# Altium footprint library zytek_ctl.PcbLib: 24 footprints (part 1 of 2)
Each footprint in its own frame and in the unit in brackets; x right, y up, seen from the top. Pads: shape width x height; smd on the part's side, far side on the other; paste and mask are expansions set on the pad; w line width, h text height; cw(c..) or ccw(c..) is an arc to the next point about the centre after c.
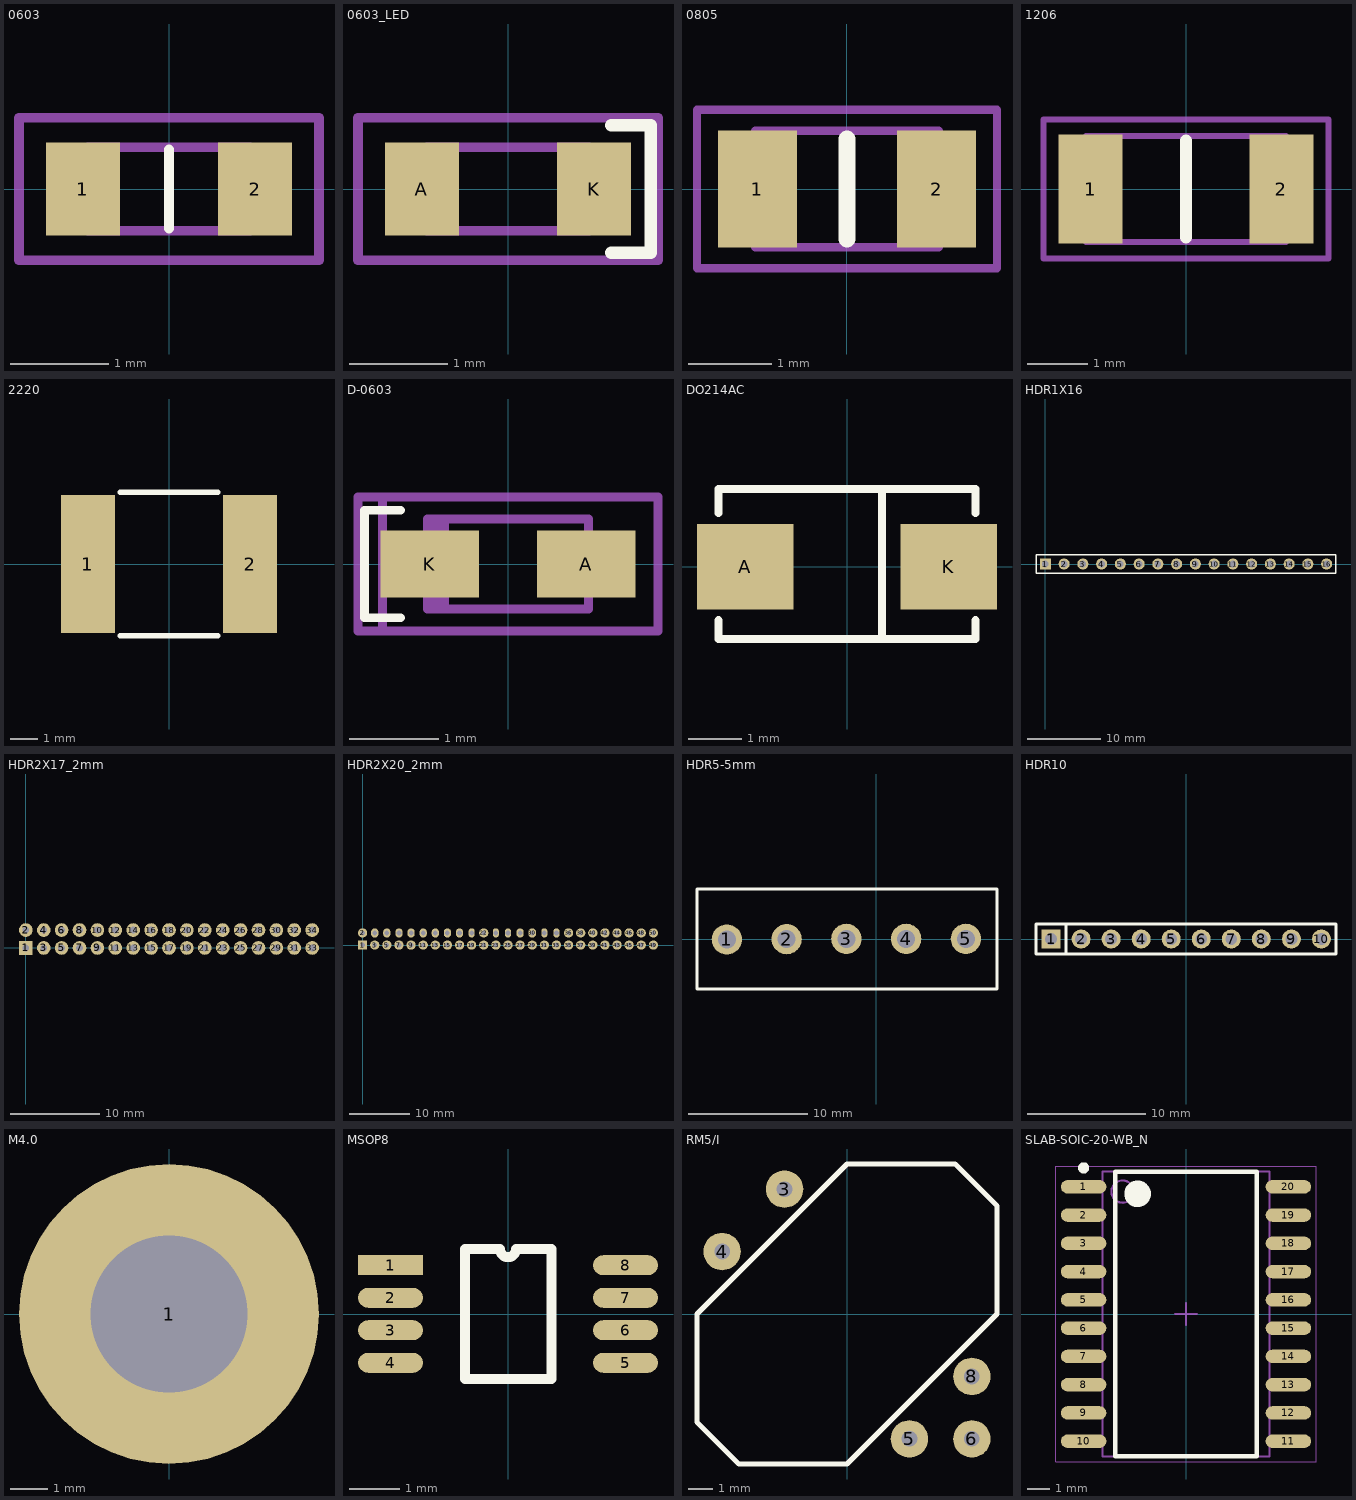
[diagram p0: the footprints below, top view; thin cyan lines are the x and y axes]

## 0603 [mm]
pads (2):
  rect 0.75x0.95 smd: 1(-0.875,0) 2(0.875,0)
Top Overlay:
  lines w0.1: 0,-0.4 0,0.4
Mechanical 2:
  text ".designator" at 0,0 h1
Mechanical 13:
  lines w0.1: -0.825,-0.425 -0.825,0.425 0.825,0.425 0.825,-0.425 -0.825,-0.425
Mechanical 15:
  lines w0.1: -1.525,-0.725 -1.525,0.725 1.525,0.725 1.525,-0.725 -1.525,-0.725
3D body: height 0.5, standoff 0, extent -0.825,-0.425 0.825,0.425

## 0603_LED [mm]
pads (2):
  rect 0.75x0.95 smd: A(-0.875,0) K(0.875,0)
Top Overlay:
  lines w0.127: 1.05,-0.65 1.45,-0.65 1.45,0.65 1.05,0.65
Mechanical 2:
  text ".designator" at 0,0 h1
Mechanical 13:
  lines w0.1: -0.825,-0.425 -0.825,0.425 0.825,0.425 0.825,-0.425 -0.825,-0.425
Mechanical 15:
  lines w0.1: -1.525,-0.725 -1.525,0.725 1.525,0.725 1.525,-0.725 -1.525,-0.725
3D body: height 0.5, standoff 0, extent -0.825,-0.425 0.825,0.425

## 0805 [mm]
pads (2):
  rect 0.95x1.4 smd: 1(-1.075,0) 2(1.075,0)
Top Overlay:
  lines w0.2: 0,-0.6 0,0.6
Mechanical 2:
  text ".designator" at 0,0 h1
Mechanical 13:
  lines w0.1: -1.1,-0.7 1.1,-0.7 1.1,0.7 -1.1,0.7 -1.1,-0.7
Mechanical 15:
  lines w0.1: -1.8,-0.95 1.8,-0.95 1.8,0.95 -1.8,0.95 -1.8,-0.95
3D body: height 0.5, standoff 0, extent -1.1,-0.7 1.1,0.7

## 1206 [mm]
pads (2):
  rect 1.05x1.8 smd: 1(-1.575,0) 2(1.575,0)
Top Overlay:
  lines w0.2: 0,-0.8 0,0.8
Mechanical 2:
  text ".designator" at 0,0 h1
Mechanical 13:
  lines w0.1: -1.65,-0.875 -1.65,0.875 1.65,0.875 1.65,-0.875 -1.65,-0.875
Mechanical 15:
  lines w0.1: -2.35,-1.15 -2.35,1.15 2.35,1.15 2.35,-1.15 -2.35,-1.15
3D body: height 0.6, standoff 0, extent -1.65,-0.875 1.65,0.875

## 2220 [mm]
pads (2):
  rect 2x5.1 smd: 1(-3,0) 2(3,0)
Top Overlay:
  lines w0.2: -1.8,-2.65 1.8,-2.65 ; -1.8,2.65 1.8,2.65
Mechanical 2:
  text ".designator" at 0,0 h1
3D body: height 5.3, standoff 0, extent -2.997,-2.667 3.124,2.642

## D-0603 [mm] "0603 Diode, 2-Leads, Body 1.7x0.9mm, IPC Medium Density"
height 0.85
pads (2):
  rect 1.1x0.75 smd: A(0.875,0) K(-0.875,0)
Top Overlay:
  lines w0.1: -1.2,-0.6 -1.6,-0.6 -1.6,0.6 -1.2,0.6
Mechanical 2:
  text ".designator" at 0,0 h1
Mechanical 13:
  rectangle: -0.9,-0.5 -0.658,0.5
  lines w0.1: -0.9,-0.5 0.9,-0.5 0.9,0.5 -0.9,0.5 -0.9,-0.5
Mechanical 15:
  lines w0.1: -1.4,-0.75 -1.4,0.75 ; -1.675,-0.75 1.675,-0.75 1.675,0.75 -1.675,0.75 -1.675,-0.75
3D body: height 0.85, standoff 0, extent -0.9,-0.5 0.9,0.5

## DO214AC [mm]
pads (2):
  rect 1.8x1.6 smd: A(-1.9,0) K(1.9,0)
Top Overlay:
  lines w0.15: -2.4,-1 -2.4,-1.35 2.4,-1.35 2.4,-1 ; -2.4,1 -2.4,1.45 2.4,1.45 2.4,1 ; 0.65,-1.35 0.65,1.45
Mechanical 2:
  text ".designator" at 0,0 h1
3D body: height 2.3, standoff 0, extent -2.4,-1.4 2.4,1.5

## HDR1X16 [mm] "Connector; Header; 16 Position"
pads (16):
  rect 1.5x1.5 hole 0.9: 1(0,0)
  round 1.5 hole 0.9: 2(2.54,0) 3(5.08,0) 4(7.62,0) 5(10.16,0) 6(12.7,0) 7(15.24,0) 8(17.78,0) 9(20.32,0) 10(22.86,0) 11(25.4,0) 12(27.94,0) 13(30.48,0) 14(33.02,0) 15(35.56,0) 16(38.1,0)
Top Overlay:
  lines w0.2: -1.27,-1.27 -1.27,1.27 0.635,1.27 39.37,1.27 39.37,-1.27 -1.27,-1.27

## HDR2X17_2mm [mil]
pads (34):
  rect 60x60 hole 30: 1(0,0)
  round 60 hole 30: 2(0,78.74) 3(78.74,0) 4(78.74,78.74) 5(157.48,0) 6(157.48,78.74) 7(236.22,0) 8(236.22,78.74) 9(314.96,0) 10(314.96,78.74) 11(393.7,0) 12(393.7,78.74) 13(472.44,0) 14(472.44,78.74) 15(551.18,0) 16(551.18,78.74) 17(629.92,0) 18(629.92,78.74) 19(708.66,0) 20(708.66,78.74) 21(787.4,0) 22(787.4,78.74) 23(866.14,0) 24(866.14,78.74) 25(944.88,0) 26(944.88,78.74) 27(1023.62,0) 28(1023.62,78.74) 29(1102.36,0) 30(1102.36,78.74) 31(1181.1,0) 32(1181.1,78.74) 33(1259.84,0) 34(1259.84,78.74)
3D body: height 228.35, standoff -102.36, extent -182.67,-66.93 1443.3,145.67

## HDR2X20_2mm [mil]
pads (50):
  rect 60x60 hole 30: 1(0,0)
  round 60 hole 30: 2(0,78.74) 3(78.74,0) 5(157.48,0) 7(236.22,0) 9(314.96,0) 11(393.7,0) 13(472.44,0) 15(551.18,0) 17(629.92,0) 19(708.66,0) 21(787.4,0) 22(787.4,78.74) 23(866.14,0) 25(944.88,0) 27(1023.62,0) 29(1102.36,0) 31(1181.1,0) 33(1259.84,0) 35(1338.58,0) 36(1338.58,78.74) 37(1417.32,0) 38(1417.32,78.74) 39(1496.06,0) 40(1496.06,78.74) 41(1574.8,0) 42(1574.8,78.74) 43(1653.54,0) 44(1653.54,78.74) 45(1732.28,0) 46(1732.28,78.74) 47(1811.02,0) 48(1811.02,78.74) 49(1889.76,0) 50(1889.76,78.74)
  oval 47.24x60 hole 30: 4(78.74,78.74) 6(157.48,78.74) 8(236.22,78.74) 10(314.96,78.74) 12(393.7,78.74) 14(472.44,78.74) 16(551.18,78.74) 18(629.92,78.74) 28(1023.62,78.74)
  oval 39.37x60 hole 30: 20(708.66,78.74) 24(866.14,78.74) 26(944.88,78.74) 32(1181.1,78.74) 34(1259.84,78.74)
  oval 51.18x60 hole 30: 30(1102.36,78.74)
3D body: height 228.35, standoff -102.36, extent -183.46,-66.93 2072.44,145.67

## HDR5-5mm [mm]
pads (5):
  round 2.54 hole 1.5: 1(-12.5,-0.038) 2(-7.5,-0.012) 3(-2.5,0.013) 4(2.5,0.013) 5(7.5,0.013)
Top Overlay:
  lines w0.254: -15,-4.2 10.1,-4.2 10.1,4.2 -15,4.2 -15,-4.2
Mechanical 2:
  text ".designator" at 0,0.013 h1

## HDR10 [mm]
pads (10):
  rect 1.6x1.6 hole 1: 1(-11.43,0)
  round 1.6 hole 1: 2(-8.89,0) 3(-6.35,0) 4(-3.81,0) 5(-1.27,0) 6(1.27,0) 7(3.81,0) 8(6.35,0) 9(8.89,0) 10(11.43,0)
Top Overlay:
  lines w0.254: -10.16,-1.27 -10.16,1.27 ; 12.65,-1.27 12.65,1.27 ; 12.66,-1.27 -12.7,-1.27 -12.7,1.27 12.66,1.27
Mechanical 2:
  text ".designator" at -2.54,0 h1

## M4.0 [mm] "3.1mm PCB Hole - Status = Draft"
pads (1):
  round 8 hole 4.2: 1(0,0)
Mechanical 2:
  text ".designator" at 0,0 h1
3D body: height 3, standoff 0, extent -3.496,-3.499 3.5,3.499

## MSOP8 [mm]
pads (8):
  rect 1.3x0.4 smd: 1(-2.35,0.975)
  oval 1.3x0.4 smd: 2(-2.35,0.325) 3(-2.35,-0.325) 4(-2.35,-0.975) 5(2.35,-0.975) 6(2.35,-0.325) 7(2.35,0.325) 8(2.35,0.975)
Top Overlay:
  lines w0.2: -0.865,-1.3 -0.865,1.3 -0.162,1.3 ccw(c0,1.3) 0.163,1.3 0.865,1.3 0.865,-1.3 -0.865,-1.3
  text "." at -1.334,1.483 h0.8
Mechanical 2:
  text ".designator" at 0,0 h1
3D body: height 1.1, standoff 0, extent -2.5,-1.5 2.5,1.5

## RM5/I [mil] "RM5 Power Core"
height 275.59
pads (5):
  round 60 hole 25: 3(-100,200) 4(-200,100) 5(100,-200) 6(200,-200) 8(200,-100)
Top Overlay:
  lines w7.87: -240.16,-173.23 -240.16,0 0,240.16 173.23,240.16 240.16,173.23 240.16,0 0,-240.16 -173.23,-240.16 -240.16,-173.23
  text "." at 145.67,-169.29 h216.54
  text "." at -145.67,192.91 h216.54
Mechanical 2:
  text ".designator" at 0,0 h39.37
3D body: height 413.39, standoff 0, extent -354.87,-428.65 428.65,354.87

## SLAB-SOIC-20-WB_N [mm] "SOIC, 20-Leads, Body 12.8x7.5mm, Pitch 1.27mm, IPC Medium Density"
height 2.65
pads (20):
  oval 2.05x0.6 smd: 1(-4.6,5.715) 2(-4.6,4.445) 3(-4.6,3.175) 4(-4.6,1.905) 5(-4.6,0.635) 6(-4.6,-0.635) 7(-4.6,-1.905) 8(-4.6,-3.175) 9(-4.6,-4.445) 10(-4.6,-5.715) 11(4.6,-5.715) 12(4.6,-4.445) 13(4.6,-3.175) 14(4.6,-1.905) 15(4.6,-0.635) 16(4.6,0.635) 17(4.6,1.905) 18(4.6,3.175) 19(4.6,4.445) 20(4.6,5.715)
Top Overlay:
  circle w0.6: c-2.175,5.4 r0.3
  circle w0.25: c-4.6,6.565 r0.125
  lines w0.2: -3.175,-6.4 3.175,-6.4 3.175,6.4 -3.175,6.4 -3.175,-6.4
Mechanical 13:
  circle w0.1: c-2.85,5.5 r0.5
  lines w0.1: -3.75,-6.4 3.75,-6.4 3.75,6.4 -3.75,6.4 -3.75,-6.4
Mechanical 15:
  lines w0.05: -5.85,-6.65 5.85,-6.65 5.85,6.65 -5.85,6.65 -5.85,-6.65
  lines w0.1: -0.5,0 0.5,0 ; 0,-0.5 0,0.5
3D body: height 2, standoff 0, extent -5.082,-6.5 5.082,6.5